# EAGLE library part 618015330923 (library Wurth-USB)
WR-DSUB Female High Density Angled PCB Connector with Hex Screw 15 Pins=>Code : Con_I-O_DSUB_PCB_Female_w-screw_618015330923 <https://katalog.we-online.com/media/images/v2/o33093v209%20Family_WR-DSUB_6180xx330923.jpg> Details see: https://katalog.we-online.com/en/em/DSUB_FEMALE_HIGH_DENSITY_ANGLED_PCB_CONNECTOR_W_HEX_SCREW_6180XX330923 Updated by Ella Wu 2019-03-13 2019 (C) Würth Elektronik
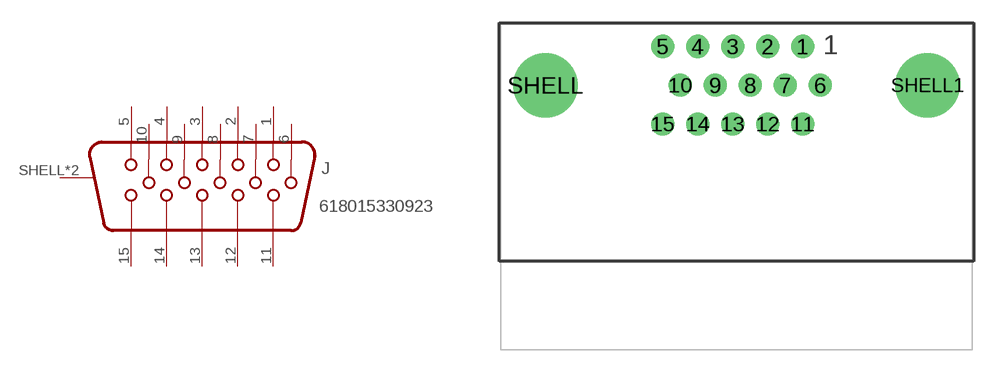
[diagram p56: symbol with the pads of 618015330923; footprint 618015330923]

Designator prefix J

## 618015330923 (WE-NUMBER: 618015330923)  [618015330923]
1  1
2  2
3  3
4  4
5  5
6  6
7  7
8  8
9  9
10  10
11  11
12  12
13  13
14  14
15  15
SHELL  SHIELD
SHELL1  SHIELD

## Footprint 618015330923 (pad centres in mm)
WR-DSUB Female High Density Angled PCB Connector with Hex Screw, 15 Pins
drill 1: 1 4.326,2.54; 2 2.036,2.54; 3 -0.254,2.54; 4 -2.544,2.54; 5 -4.834,2.54; 6 5.476,0; 7 3.186,0; 8 0.896,0; 9 -1.394,0; 10 -3.684,0; 11 4.336,-2.54; 12 2.046,-2.54; 13 -0.244,-2.54; 14 -2.534,-2.54; 15 -4.824,-2.54
drill 3.2: SHELL -12.495,0; SHELL1 12.495,0